# Altium footprint library nodemcu.PcbLib: 4 footprints
Each footprint in its own frame and in the unit in brackets; x right, y up, seen from the top. Pads: shape width x height; smd on the part's side, far side on the other; paste and mask are expansions set on the pad; w line width, h text height; cw(c..) or ccw(c..) is an arc to the next point about the centre after c.
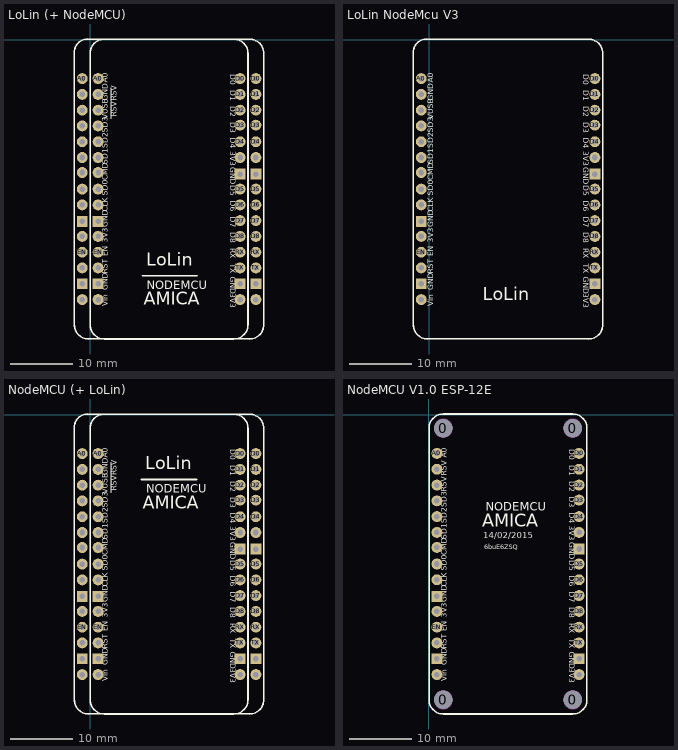
[diagram p0: the footprints below, top view; thin cyan lines are the x and y axes]

## LoLin (+ NodeMCU) [mil]
pads (60):
  round 69 hole 35: 3V3(-49,-1246) 3V3(51,-1246) 3V3(951,-1646) 3V3(951,-746) 3V3(1051,-1646) 3V3(1051,-746) A0(-49,-246) A0(51,-246) CLK(-49,-1046) CLK(51,-1046) CMD(-49,-841) CMD(51,-841) D0(951,-246) D0(1051,-246) D1(951,-346) D1(1051,-346) D2(951,-446) D2(1051,-446) D3(951,-541) D3(1051,-541) D4(951,-646) D4(1051,-646) D5(951,-946) D5(1051,-946) D6(951,-1046) D6(1051,-1046) D7(951,-1146) D7(1051,-1146) D8(951,-1246) D8(1051,-1246) EN(-49,-1346) EN(51,-1346) GND(-49,-346) RST(-49,-1446) RST(51,-1446) RX(951,-1346) RX(1051,-1346) SD0(-49,-946) SD0(51,-946) SD1(-49,-746) SD1(51,-746) SD2(-49,-646) SD2(51,-646) SD3(-49,-546) SD3(51,-546) TX(951,-1446) TX(1051,-1446) VIN(-49,-1646) VIN(51,-1646) VUSB(-49,-446) ""(51,-446) ""(51,-346)
  rect 69x69 hole 35: GND(-49,-1546) GND(-49,-1151) GND(51,-1546) GND(51,-1151) GND(951,-1546) GND(951,-851) GND(1051,-1546) GND(1051,-851)
Top Overlay:
  lines w3: 135,-500 135,-395 ; 135,-390 135,-305
  lines w10: -100,-1810 -100,-80 cw(c-15.07,-80) -15.07,4.93 ; -99,-1806 ccw(c-9,-1806) -9,-1896 1010,-1895 ; -14,4 1010,4 ; 330,-1495 680,-1495 ; 1011,-1896 ccw(c1011,-1806) 1101,-1806 1101,-86 ccw(c1011,-86) 1011,4 ; 1,-1806 ccw(c91,-1806) 91,-1896 911,-1896 ccw(c911,-1806) 1001,-1806 1001,-86 ccw(c911,-86) 911,4 91,4 ccw(c91,-86) 1,-86 1,-1806
  text "RSV" at 181,-487.43 h60
  text "RSV" at 181,-387 h60
  text "GND" at 126,-1188 h60
  text "3V3" at 126,-1285 h60
  text "EN" at 126,-1372 h60
  text "RST" at 126,-1484 h60
  text "GND" at 126,-1587 h60
  text "Vin" at 126,-1687 h60
  text "D7" at 876,-1121.23 h60
  text "D8" at 876,-1221.11 h60
  text "RX" at 876,-1320.06 h60
  text "TX" at 876,-1419 h60
  text "GND" at 876,-1502.2 h60
  text "3V3" at 876,-1606 h60
  text "D6" at 876,-1020.12 h60
  text "CMD" at 126,-889.14 h60
  text "D0" at 876,-220 h60
  text "D1" at 876,-321.35 h60
  text "D2" at 876,-421.58 h60
  text "D3" at 876,-521.58 h60
  text "D4" at 876,-620 h60
  text "3V3" at 876,-705.01 h60
  text "GND" at 876,-807 h60
  text "D5" at 876,-921 h60
  text "A0" at 126,-273 h60
  text "GND" at 126,-387 h60
  text "VUSB" at 125,-505 h60
  text "SD3" at 126,-587.86 h60
  text "SD2" at 126,-688.29 h60
  text "SD1" at 126,-788.71 h60
  text "SD0" at 126,-989.57 h60
  text "CLK" at 126,-1090 h60
  text "NODEMCU" at 360,-1599 h90
  text "AMICA" at 339,-1709 h140
  text "LoLin" at 355,-1460 h140

## LoLin NodeMcu V3 [mil]
pads (30):
  round 69 hole 35: 3V3(-49,-1246) 3V3(1051,-1646) 3V3(1051,-746) A0(-49,-246) CLK(-49,-1046) CMD(-49,-841) D0(1051,-246) D1(1051,-346) D2(1051,-446) D3(1051,-541) D4(1051,-646) D5(1051,-946) D6(1051,-1046) D7(1051,-1146) D8(1051,-1246) EN(-49,-1346) GND(-49,-346) RST(-49,-1446) RX(1051,-1346) SD0(-49,-946) SD1(-49,-746) SD2(-49,-646) SD3(-49,-546) TX(1051,-1446) VIN(-49,-1646) VUSB(-49,-446)
  rect 69x69 hole 35: GND(-49,-1546) GND(-49,-1151) GND(1051,-1546) GND(1051,-851)
Top Overlay:
  lines w10: -100,-1810 -100,-80 cw(c-15.07,-80) -15.07,4.93 ; -99,-1806 ccw(c-9,-1806) -9,-1896 1010,-1895 ; -14,4 1010,4 ; 1011,-1896 ccw(c1011,-1806) 1101,-1806 1101,-86 ccw(c1011,-86) 1011,4
  text "GND" at 41,-1188 h60
  text "3V3" at 41,-1285 h60
  text "EN" at 41,-1372 h60
  text "RST" at 41,-1484 h60
  text "GND" at 41,-1587 h60
  text "Vin" at 41,-1687 h60
  text "D7" at 966,-1121.23 h60
  text "D8" at 966,-1221.11 h60
  text "RX" at 966,-1320.06 h60
  text "TX" at 966,-1419 h60
  text "GND" at 966,-1502.2 h60
  text "3V3" at 966,-1606 h60
  text "D6" at 966,-1020.12 h60
  text "CMD" at 41,-889.14 h60
  text "D0" at 966,-220 h60
  text "D1" at 966,-321.35 h60
  text "D2" at 966,-421.58 h60
  text "D3" at 966,-521.58 h60
  text "D4" at 966,-620 h60
  text "3V3" at 966,-705.01 h60
  text "GND" at 966,-807 h60
  text "D5" at 966,-921 h60
  text "A0" at 41,-273 h60
  text "GND" at 41,-387 h60
  text "VUSB" at 40,-505 h60
  text "SD3" at 41,-587.86 h60
  text "SD2" at 41,-688.29 h60
  text "SD1" at 41,-788.71 h60
  text "SD0" at 41,-989.57 h60
  text "CLK" at 41,-1090 h60
  text "LoLin" at 340,-1680 h140

## NodeMCU (+ LoLin) [mil]
pads (60):
  round 69 hole 35: 3V3(-49,-1246) 3V3(51,-1246) 3V3(951,-1646) 3V3(951,-746) 3V3(1051,-1646) 3V3(1051,-746) A0(-49,-246) A0(51,-246) CLK(-49,-1046) CLK(51,-1046) CMD(-49,-841) CMD(51,-841) D0(951,-246) D0(1051,-246) D1(951,-346) D1(1051,-346) D2(951,-446) D2(1051,-446) D3(951,-541) D3(1051,-541) D4(951,-646) D4(1051,-646) D5(951,-946) D5(1051,-946) D6(951,-1046) D6(1051,-1046) D7(951,-1146) D7(1051,-1146) D8(951,-1246) D8(1051,-1246) EN(-49,-1346) EN(51,-1346) RST(-49,-1446) RST(51,-1446) RSV(51,-446) RSV(51,-346) RX(951,-1346) RX(1051,-1346) SD0(-49,-946) SD0(51,-946) SD1(-49,-746) SD1(51,-746) SD2(-49,-646) SD2(51,-646) SD3(-49,-546) SD3(51,-546) TX(951,-1446) TX(1051,-1446) VIN(-49,-1646) VIN(51,-1646) ""(-49,-446) ""(-49,-346)
  rect 69x69 hole 35: GND(-49,-1546) GND(-49,-1151) GND(51,-1546) GND(51,-1151) GND(951,-1546) GND(951,-851) GND(1051,-1546) GND(1051,-851)
Top Overlay:
  lines w3: 135,-495 135,-390 ; 135,-385 135,-300
  lines w10: -100,-1810 -100,-80 cw(c-15.07,-80) -15.07,4.93 ; -99,-1806 ccw(c-9,-1806) -9,-1896 1010,-1895 ; -14,4 1010,4 ; 325,-410 675,-410 ; 1011,-1896 ccw(c1011,-1806) 1101,-1806 1101,-86 ccw(c1011,-86) 1011,4 ; 1,-1806 ccw(c91,-1806) 91,-1896 911,-1896 ccw(c911,-1806) 1001,-1806 1001,-86 ccw(c911,-86) 911,4 91,4 ccw(c91,-86) 1,-86 1,-1806
  text "RSV" at 181,-482.43 h60
  text "RSV" at 181,-382 h60
  text "GND" at 126,-382 h60
  text "VUSB" at 125,-500 h60
  text "GND" at 126,-1188 h60
  text "3V3" at 126,-1285 h60
  text "EN" at 126,-1372 h60
  text "RST" at 126,-1484 h60
  text "GND" at 126,-1587 h60
  text "Vin" at 126,-1687 h60
  text "D7" at 876,-1121.23 h60
  text "D8" at 876,-1221.11 h60
  text "RX" at 876,-1320.06 h60
  text "TX" at 876,-1419 h60
  text "GND" at 876,-1502.2 h60
  text "3V3" at 876,-1606 h60
  text "D6" at 876,-1020.12 h60
  text "CMD" at 126,-889.14 h60
  text "D0" at 876,-220 h60
  text "D1" at 876,-321.35 h60
  text "D2" at 876,-421.58 h60
  text "D3" at 876,-521.58 h60
  text "D4" at 876,-620 h60
  text "3V3" at 876,-705.01 h60
  text "GND" at 876,-807 h60
  text "D5" at 876,-921 h60
  text "A0" at 126,-273 h60
  text "SD3" at 126,-587.86 h60
  text "SD2" at 126,-688.29 h60
  text "SD1" at 126,-788.71 h60
  text "SD0" at 126,-989.57 h60
  text "CLK" at 126,-1090 h60
  text "NODEMCU" at 355,-514 h90
  text "AMICA" at 334,-624 h140
  text "LoLin" at 350,-375 h140

## NodeMCU V1.0 ESP-12E [mil]
pads (34):
  round 115 hole 115 unplated paste-300 mask-300: 0(91,-1806) 0(91,-86) 0(911,-1806) 0(911,-86)
  round 69 hole 35: 3V3(51,-1246) 3V3(951,-1646) 3V3(951,-746) A0(51,-246) CLK(51,-1046) CMD(51,-841) D0(951,-246) D1(951,-346) D2(951,-446) D3(951,-541) D4(951,-646) D5(951,-946) D6(951,-1046) D7(951,-1146) D8(951,-1246) EN(51,-1346) RST(51,-1446) RSV(51,-446) RSV(51,-346) RX(951,-1346) SD0(51,-946) SD1(51,-746) SD2(51,-646) SD3(51,-546) TX(951,-1446) VIN(51,-1646)
  rect 69x69 hole 35: GND(51,-1546) GND(51,-1151) GND(951,-1546) GND(951,-851)
Top Overlay:
  lines w10: 1,-1806 ccw(c91,-1806) 91,-1896 911,-1896 ccw(c911,-1806) 1001,-1806 1001,-86 ccw(c911,-86) 911,4 91,4 ccw(c91,-86) 1,-86 1,-1806
  text "GND" at 126,-1188 h60
  text "3V3" at 126,-1285 h60
  text "EN" at 126,-1372 h60
  text "RST" at 126,-1484 h60
  text "GND" at 126,-1587 h60
  text "Vin" at 126,-1687 h60
  text "D7" at 876,-1121.23 h60
  text "D8" at 876,-1221.11 h60
  text "RX" at 876,-1320.06 h60
  text "TX" at 876,-1419 h60
  text "GND" at 876,-1502.2 h60
  text "3V3" at 876,-1606 h60
  text "D6" at 876,-1020.12 h60
  text "CMD" at 126,-889.14 h60
  text "D0" at 876,-220 h60
  text "D1" at 876,-321.35 h60
  text "D2" at 876,-421.58 h60
  text "D3" at 876,-521.58 h60
  text "D4" at 876,-620 h60
  text "3V3" at 876,-705.01 h60
  text "GND" at 876,-807 h60
  text "D5" at 876,-921 h60
  text "A0" at 126,-273 h60
  text "RSV" at 126,-387 h60
  text "RSV" at 126,-487.43 h60
  text "SD3" at 126,-587.86 h60
  text "SD2" at 126,-688.29 h60
  text "SD1" at 126,-788.71 h60
  text "SD0" at 126,-989.57 h60
  text "CLK" at 126,-1090 h60
  text "6buE6ZSQ" at 349,-853 h30
  text "NODEMCU" at 360,-629 h90
  text "AMICA" at 339,-739 h140
  text "14/02/2015" at 345,-798 h69
Keep-Out Layer:
  circle w2: c91,-86 r57.5
  circle w2: c911,-86 r57.5
  circle w2: c91,-1806 r57.5
  circle w2: c911,-1806 r57.5
3D body "NodeMCU HiLetgo ESP8266.STEP": height 504.96, standoff 4.96, extent 0,-1918.83 1000,-5